# EAGLE library part LMD18245 (library eagleLibrary)
LMD18245 3A, 55V DMOS Full-Bridge Motor Driver
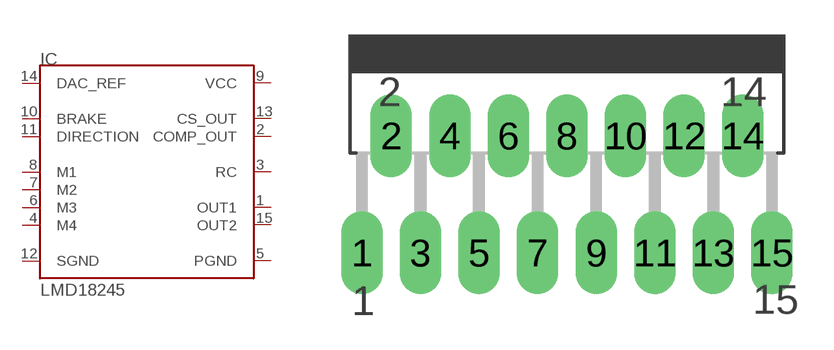
[diagram p0: symbol with the pads of MULTIWATT-15; footprint MULTIWATT-15]

Designator prefix IC

## LMD18245 (MF: Texas Instruments; MPN: LMD18245; OC_FARNELL: 1589425; OC_NEWARK: 32M1527)  [MULTIWATT-15]
1  OUT1  out
2  COMP_OUT  out
3  RC  pas
4  M4  in
5  PGND  pwr
6  M3  in
7  M2  in
8  M1  in
9  VCC  pwr
10  BRAKE  in
11  DIRECTION  in
12  SGND  pwr
13  CS_OUT  out
14  DAC_REF  pwr
15  OUT2  out

## Footprint MULTIWATT-15 (pad centres in mm)
Multiwatt 15 lead
drill 1.2 long: 1 -8.89,-7.62; 2 -7.62,-2.54; 3 -6.35,-7.62; 4 -5.08,-2.54; 5 -3.81,-7.62; 6 -2.54,-2.54; 7 -1.27,-7.62; 8 0,-2.54; 9 1.27,-7.62; 10 2.54,-2.54; 11 3.81,-7.62; 12 5.08,-2.54; 13 6.35,-7.62; 14 7.62,-2.54; 15 8.89,-7.62